# Altium footprint library BOURNS_PEC11R-4020F-S.PcbLib: 1 footprints
Each footprint in its own frame and in the unit in brackets; x right, y up, seen from the top. Pads: shape width x height; smd on the part's side, far side on the other; paste and mask are expansions set on the pad; w line width, h text height; cw(c..) or ccw(c..) is an arc to the next point about the centre after c.
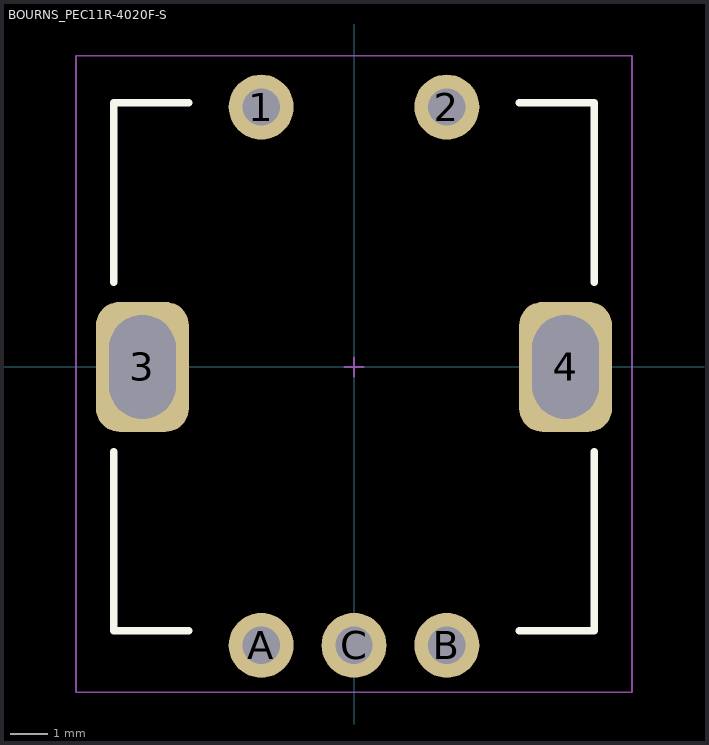
[diagram p0: the footprint, top view; thin cyan lines are the x and y axes]

## BOURNS_PEC11R-4020F-S [mm]
pads (7):
  round 1.75 hole 1: 1(-2.5,7) 2(2.5,7) A(-2.5,-7.5) B(2.5,-7.5) C(0,-7.5)
  rrect50% 2.5x3.5 hole 1.8 slot 2.8 at 90 deg: 3(-5.7,0) 4(5.7,0)
Top Overlay:
  lines w0.2: -6.477,-2.286 -6.477,-7.112 -4.445,-7.112 ; -6.477,2.286 -6.477,7.112 -4.445,7.112 ; 4.445,-7.112 6.477,-7.112 6.477,-2.286 ; 4.445,7.112 6.477,7.112 6.477,2.286
Mechanical 15:
  lines w0.05: -0.254,0 0.254,0 ; 0,-0.254 0,0.254 ; -7.493,-8.763 7.493,-8.763 7.493,8.382 -7.493,8.382 -7.493,-8.763
3D body "pec11r-4x20f-sxxxx.stp": height 26.62, standoff -3.58, extent -7,-7.7 7,7.2